# EAGLE library part PULSE- (library Connector)
CONN MAGJACK 1PORT 100 BASE-T JV Series <http://productfinder.pulseeng.com/products/datasheets/J409.pdf>
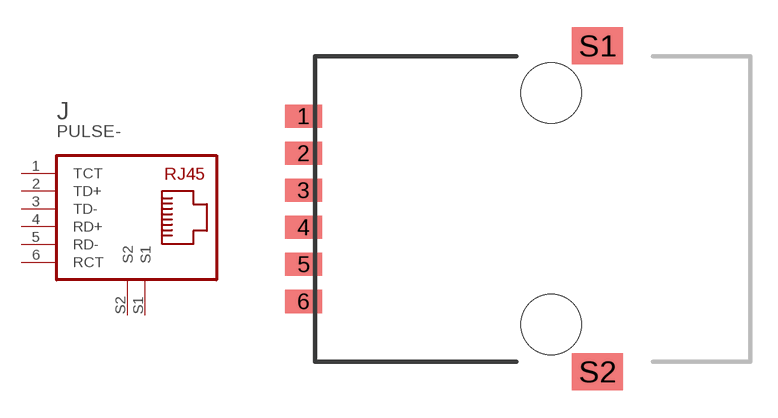
[diagram p4: symbol with the pads of PULSE-JV; footprint PULSE-JV]

Designator prefix J

## PULSE-JV011I21NL (DK: 553-1601-5-ND)  [PULSE-JV]
1  TCT  pas
2  TD+  pas
3  TD-  pas
4  RD+  pas
5  RD-  pas
6  RCT  pas
S1  S1  pas
S2  S2  pas

## Footprint PULSE-JV (pad centres in mm)
PULSEJACK JV SMT RJ45 PORT Datasheet <http://productfinder.pulseeng.com/products/datasheets/J409.pdf> Digikey <http://www.digikey.com/product-detail/en/JV011I21NL/553-1601-5-ND/1036900>
smd 2.032 x 1.27: 1 -13.589,5.08; 2 -13.589,3.048; 3 -13.589,1.016; 4 -13.589,-1.016; 5 -13.589,-3.048; 6 -13.589,-5.08
smd 2.794 x 2.032: S1 2.54,8.941; S2 2.54,-8.941
hole 3.302 at 0,-6.35
hole 3.302 at 0,6.35